# Altium schematic symbol library TLLR4400.SchLib: 1 symbol
Pins are listed as number, name and electrical type; pins without a type are passive.

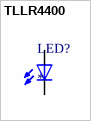
[diagram p0: symbol TLLR4400]

## TLLR4400
designator LED?
Red 619nm LED Indication - Discrete 1.9V Radial; MF: Vishay; MP: TLLR4400; SnapEDA_Link: https://www.snapeda.com/parts/TLLR4400/Vishay+Semiconductor+Opto+Division/view-part/?ref=snap; Package: None; Value: *; Check_prices: https://www.snapeda.com/parts/TLLR4400/Vishay+Semiconductor+Opto+Division/view-part/?ref=eda
footprint LED3MM
pins: A, K C